# Altium footprint library PcbLib.PcbLib: 8 footprints
Each footprint in its own frame and in the unit in brackets; x right, y up, seen from the top. Pads: shape width x height; smd on the part's side, far side on the other; paste and mask are expansions set on the pad; w line width, h text height; cw(c..) or ccw(c..) is an arc to the next point about the centre after c.
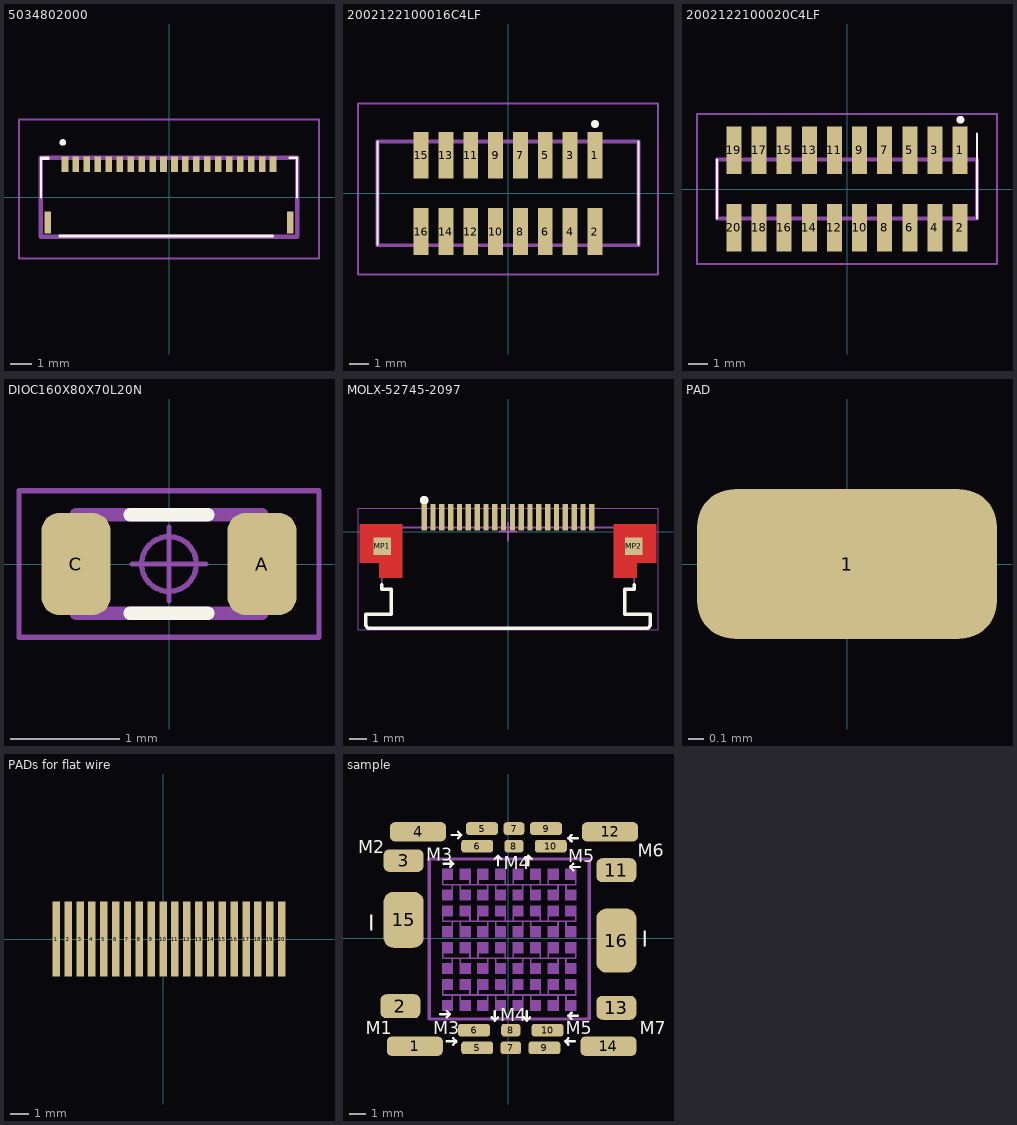
[diagram p0: the footprints below, top view; thin cyan lines are the x and y axes]

## 5034802000 [mm]
pads (22):
  rect 0.3x0.7 smd: 1(-4.75,1.5) 2(-4.25,1.5) 3(-3.75,1.5) 4(-3.25,1.5) 5(-2.75,1.5) 6(-2.25,1.5) 7(-1.75,1.5) 8(-1.25,1.5) 9(-0.75,1.5) 10(-0.25,1.5) 11(0.25,1.5) 12(0.75,1.5) 13(1.25,1.5) 14(1.75,1.5) 15(2.25,1.5) 16(2.75,1.5) 17(3.25,1.5) 18(3.75,1.5) 19(4.25,1.5) 20(4.75,1.5)
  rect 0.3x1 smd: MP1(-5.54,-1.15) MP2(5.54,-1.15)
Top Overlay:
  lines w0.1: -5.85,1.75 -5.85,0 -5.85,1.75 ; -5.85,1.75 -5.5,1.75 -5.5,1.8 -5.85,1.8 -5.85,1.75 ; 5.85,1.8 5.85,0 5.85,1.8 ; 5.85,1.8 5.5,1.8 5.85,1.8 ; -5,-1.8 4.75,-1.8 4.75,-1.75 -5,-1.75 -5,-1.8
  lines w0.2: -4.9,2.5 ccw(c-4.85,2.5) -4.8,2.5 ; -4.9,2.5 cw(c-4.85,2.5) -4.8,2.5 ; -4.9,2.5 ccw(c-4.85,2.5) -4.8,2.5
Mechanical 13:
  lines w0.2: -5.85,-1.8 5.85,-1.8 5.85,1.8 -5.85,1.8 -5.85,-1.8
Mechanical 15:
  lines w0.1: -6.85,-2.8 6.85,-2.8 6.85,3.55 -6.85,3.55 -6.85,-2.8
3D body "503480-2000.stp": height 1.97, standoff 0, extent -5.85,-1.8 5.85,1.82

## 2002122100016C4LF [mm]
pads (16):
  rect 0.76x2.4 smd: 1(4.445,1.95) 2(4.445,-1.95) 3(3.175,1.95) 4(3.175,-1.95) 5(1.905,1.95) 6(1.905,-1.95) 7(0.635,1.95) 8(0.635,-1.95) 9(-0.635,1.95) 10(-0.635,-1.95) 11(-1.905,1.95) 12(-1.905,-1.95) 13(-3.175,1.95) 14(-3.175,-1.95) 15(-4.445,1.95) 16(-4.445,-1.95)
Top Overlay:
  lines w0.1: -6.67,-2.65 -6.67,2.65 ; 6.67,-2.65 6.67,2.65
  lines w0.3: 4.445,3.5 ccw(c4.445,3.55) 4.445,3.6 ccw(c4.445,3.55) 4.445,3.5
Mechanical 13:
  lines w0.2: -6.67,-2.65 6.67,-2.65 6.67,2.65 -6.67,2.65 -6.67,-2.65
Mechanical 15:
  lines w0.1: -7.67,-4.15 7.67,-4.15 7.67,4.6 -7.67,4.6 -7.67,-4.15
3D body "20021221-00016C4LF.stp": height 5.9, standoff 0, extent -6.67,-3.074 6.67,3.074

## 2002122100020C4LF [mm]
pads (20):
  rect 0.76x2.4 smd: 1(5.715,1.95) 2(5.715,-1.95) 3(4.445,1.95) 4(4.445,-1.95) 5(3.175,1.95) 6(3.175,-1.95) 7(1.905,1.95) 8(1.905,-1.95) 9(0.635,1.95) 10(0.635,-1.95) 11(-0.635,1.95) 12(-0.635,-1.95) 13(-1.905,1.95) 14(-1.905,-1.95) 15(-3.175,1.95) 16(-3.175,-1.95) 17(-4.445,1.95) 18(-4.445,-1.95) 19(-5.715,1.95) 20(-5.715,-1.95)
Top Overlay:
  lines w0.1: -6.58,-1.5 -6.58,1.5 ; 6.58,-1.5 6.58,2.8
  lines w0.2: 5.63,3.5 ccw(c5.73,3.5) 5.83,3.5 ccw(c5.73,3.5) 5.63,3.5
Mechanical 13:
  lines w0.2: -6.58,-1.5 6.58,-1.5 6.58,1.5 -6.58,1.5 -6.58,-1.5
Mechanical 15:
  lines w0.1: -7.58,-3.8 7.58,-3.8 7.58,3.8 -7.58,3.8 -7.58,-3.8
3D body "20021221-00020C4LF.stp": height 4.85, standoff 0, extent -6.58,-3.074 6.58,3.074

## DIOC160X80X70L20N [mm] "Diode, Chip; 1.60 mm L X 0.80 mm W X 0.70 mm H body"
height 0.7
pads (2):
  rrect51% 0.63x0.93 smd: A(0.85,0) C(-0.85,0)
Top Overlay:
  lines w0.12: -0.355,-0.45 0.355,-0.45 ; -0.355,0.45 0.355,0.45
Mechanical 11:
  lines w0.12: -0.85,-0.45 0.85,-0.45 0.85,0.45 -0.85,0.45 -0.85,-0.45
Mechanical 12:
  lines w0.025: -0.8,-0.4 0.8,-0.4 ; -0.8,-0.4 -0.8,0.4 ; -0.8,-0.4 -0.8,0.4 ; -0.8,-0.4 -0.6,-0.4 -0.6,0.4 -0.8,0.4 ; -0.8,0.4 0.8,0.4 ; 0.8,-0.4 0.8,0.4 ; 0.8,-0.4 0.6,-0.4 0.6,0.4 0.8,0.4 ; 0.8,-0.4 0.8,0.4
Mechanical 15:
  circle w0.05: c0,0 r0.25
  lines w0.05: -0.335,0 0.335,0 ; 0,-0.335 0,0.335 ; -1.37,-0.67 1.37,-0.67 1.37,0.67 -1.37,0.67 -1.37,-0.67
3D body: height 0.25, standoff 0, extent 0,0 0.254,0.254
3D body "DIOC160X80X70L20.STEP": height 0.7, standoff 0, extent -0.8,-0.4 0.8,0.4

## MOLX-52745-2097 [mm] "FPC Connector, 20-Leads, Right Angle, Pitch 0.5 mm, Mated Height 2.0 mm, SMT"
height 2.012
pads (22):
  rect 0.3x1.5 smd: 1(-4.75,0.824) 2(-4.25,0.824) 3(-3.75,0.824) 4(-3.25,0.824) 5(-2.75,0.824) 6(-2.25,0.824) 7(-1.75,0.824) 8(-1.25,0.824) 9(-0.75,0.824) 10(-0.25,0.824) 11(0.25,0.824) 12(0.75,0.824) 13(1.25,0.824) 14(1.75,0.824) 15(2.25,0.824) 16(2.75,0.824) 17(3.25,0.824) 18(3.75,0.824) 19(4.25,0.824) 20(4.75,0.824)
  rect 1x1 smd: MP1(-7.134,-0.824) MP2(7.134,-0.824)
Top Layer:
  region: -8.4,0.424 -6,0.424 -6,-2.626 -7.3,-2.626 -7.3,-1.777 -7.3,-1.776 -8.4,-1.776
  region: 6,0.424 8.4,0.424 8.4,-1.776 8.4,-1.777 7.3,-1.777 7.3,-2.626 6,-2.626
Top Overlay:
  circle w0.25: c-4.75,1.774 r0.125
  lines w0.2: -7.15,-3.026 -7.15,-3.276 -6.625,-3.276 -6.625,-4.676 -8.05,-4.676 -8.05,-5.276 ccw(c-7.85,-5.276) -7.85,-5.476 7.85,-5.476 ccw(c7.85,-5.276) 8.05,-5.276 8.05,-4.676 6.625,-4.676 6.625,-3.276 7.15,-3.276 7.15,-3.026
Mechanical 13:
  lines w0.1: -8.05,-4.678 -8.05,-5.276 ccw(c-7.85,-5.276) -7.85,-5.476 7.85,-5.476 ccw(c7.85,-5.276) 8.05,-5.276 8.05,-4.676 6.625,-4.676 6.625,-3.276 7.15,-3.276 7.15,0.224 -7.15,0.224 -7.15,-3.276 -6.625,-3.276 -6.625,-4.676 -8.05,-4.676 -8.049,-4.677
Mechanical 15:
  lines w0.05: -8.5,-5.576 8.5,-5.576 8.5,1.324 -8.5,1.324 -8.5,-5.576
  lines w0.1: -0.5,0 0.5,0 ; 0,-0.5 0,0.5
3D body "527452097.stp": height 2.01, standoff 0.01, extent -8.05,-5.476 8.05,0.924

## PAD [mm]
pads (1):
  rrect50% 2x1 smd: 1(0,0)

## PADs for flat wire [mm] "FPC Connector, 20-Leads, Right Angle, Pitch 0.5 mm, Mated Height 2.0 mm, SMT"
height 2.012
pads (20):
  rect 0.4x4 smd: 1(-5.715,0) 2(-5.08,0) 3(-4.445,0) 4(-3.81,0) 5(-3.175,0) 6(-2.54,0) 7(-1.905,0) 8(-1.27,0) 9(-0.635,0) 10(0,0) 11(0.635,0) 12(1.27,0) 13(1.905,0) 14(2.54,0) 15(3.175,0) 16(3.81,0) 17(4.445,0) 18(5.08,0) 19(5.715,0) 20(6.35,0)

## sample [mm]
pads (22):
  rrect50% 3.5x1.2 smd: 1(-5.85,-6.75) 4(-5.65,6.65) 12(6.35,6.65) 14(6.25,-6.75)
  rrect50% 2.5x1.5 smd: 2(-6.75,-4.25) 11(6.75,4.25) 13(6.75,-4.35)
  rrect50% 2.5x1.4 smd: 3(-6.55,4.85)
  rrect50% 2x0.8 smd: 5(-1.95,-6.85) 5(-1.65,6.85) 6(-2.15,-5.75) 6(-1.95,5.75) 9(2.25,-6.85) 9(2.35,6.85) 10(2.45,-5.75) 10(2.65,5.75)
  rrect50% 1.3x0.8 smd: 7(0.15,-6.85) 7(0.35,6.85)
  rrect50% 1.2x0.8 smd: 8(0.15,-5.75) 8(0.35,5.75)
  rrect50% 2.5x3.5 smd: 15(-6.55,1.15)
  rrect50% 2.5x4 smd: 16(6.75,-0.15)
Top Overlay:
  lines w0.15: -4.25,-4.75 -3.65,-4.75 ; -4.05,4.65 -3.45,4.65 ; -3.85,-6.45 -3.25,-6.45 ; -3.85,-4.95 -3.65,-4.75 ; -3.85,-4.55 -3.65,-4.75 ; -3.65,4.45 -3.45,4.65 ; -3.65,4.85 -3.45,4.65 ; -3.55,6.45 -2.95,6.45 ; -3.45,-6.65 -3.25,-6.45 ; -3.45,-6.25 -3.25,-6.45 ; -3.15,6.25 -2.95,6.45 ; -3.15,6.65 -2.95,6.45 ; -1.05,-4.95 -0.85,-5.15 ; -0.85,-4.55 -0.85,-5.15 ; -0.85,4.95 -0.65,5.15 ; -0.65,-4.95 -0.85,-5.15 ; -0.65,4.55 -0.65,5.15 ; -0.45,4.95 -0.65,5.15 ; 0.95,-4.95 1.15,-5.15 ; 1.05,4.95 1.25,5.15 ; 1.15,-4.55 1.15,-5.15 ; 1.25,4.55 1.25,5.15 ; 1.35,-4.95 1.15,-5.15 ; 1.45,4.95 1.25,5.15 ; 3.75,-6.65 3.55,-6.45 ; 3.75,-6.25 3.55,-6.45 ; 3.95,-5.05 3.75,-4.85 ; 3.95,-4.65 3.75,-4.85 ; 3.95,6.05 3.75,6.25 ; 3.95,6.45 3.75,6.25 ; 4.05,4.25 3.85,4.45 ; 4.05,4.65 3.85,4.45 ; 4.15,-6.45 3.55,-6.45 ; 4.35,-4.85 3.75,-4.85 ; 4.35,6.25 3.75,6.25 ; 4.45,4.45 3.85,4.45
  text "M5" at 3.6,-6 h0.8
  text "M7" at 8.2,-6 h0.8
  text "M6" at 8.1,5.1 h0.8
  text "M4" at -0.3,4.3 h0.8
  text "M3" at -5.15,4.85 h0.8
  text "M1" at -8.9,-6 h0.8
  text "M2" at -9.4,5.3 h0.8
  text "M3" at -4.7,-6 h0.8
  text "M4" at -0.5,-5.2 h0.8
  text "M5" at 3.75,4.75 h0.8
  text "I" at -8.75,0.45 h1
  text "I" at 8.35,-0.55 h1
Mechanical 13:
  lines w0.2: -4.95,-5.05 5.05,-5.05 5.05,4.95 -4.95,4.95 -4.95,-5.05
Mechanical 15:
  rectangle: 2.45,3.65 3.15,4.35
  rectangle: 3.55,-3.25 4.25,-2.55
  rectangle: 3.55,-4.55 4.25,-3.85
  rectangle: -4.15,-3.25 -3.45,-2.55
  rectangle: -1.95,-3.25 -1.25,-2.55
  rectangle: -4.15,-4.55 -3.45,-3.85
  rectangle: -1.95,-4.55 -1.25,-3.85
  rectangle: 2.45,-3.25 3.15,-2.55
  rectangle: 2.45,-4.55 3.15,-3.85
  rectangle: 0.25,-3.25 0.95,-2.55
  rectangle: 1.35,-3.25 2.05,-2.55
  rectangle: 0.25,-4.55 0.95,-3.85
  rectangle: 1.35,-4.55 2.05,-3.85
  rectangle: -0.85,-3.25 -0.15,-2.55
  rectangle: -0.85,-4.55 -0.15,-3.85
  rectangle: -3.05,-3.25 -2.35,-2.55
  rectangle: -3.05,-4.55 -2.35,-3.85
  rectangle: 3.55,-0.95 4.25,-0.25
  rectangle: 3.55,-2.25 4.25,-1.55
  rectangle: -4.15,-0.95 -3.45,-0.25
  rectangle: -1.95,-0.95 -1.25,-0.25
  rectangle: -4.15,-2.25 -3.45,-1.55
  rectangle: -1.95,-2.25 -1.25,-1.55
  rectangle: 2.45,-0.95 3.15,-0.25
  rectangle: 2.45,-2.25 3.15,-1.55
  rectangle: 0.25,-0.95 0.95,-0.25
  rectangle: 1.35,-0.95 2.05,-0.25
  rectangle: 0.25,-2.25 0.95,-1.55
  rectangle: 1.35,-2.25 2.05,-1.55
  rectangle: -0.85,-0.95 -0.15,-0.25
  rectangle: -0.85,-2.25 -0.15,-1.55
  rectangle: -3.05,-0.95 -2.35,-0.25
  rectangle: -3.05,-2.25 -2.35,-1.55
  rectangle: 3.55,1.35 4.25,2.05
  rectangle: 3.55,0.05 4.25,0.75
  rectangle: -4.15,1.35 -3.45,2.05
  rectangle: -1.95,1.35 -1.25,2.05
  rectangle: -4.15,0.05 -3.45,0.75
  rectangle: -1.95,0.05 -1.25,0.75
  rectangle: 2.45,1.35 3.15,2.05
  rectangle: 2.45,0.05 3.15,0.75
  rectangle: 0.25,1.35 0.95,2.05
  rectangle: 1.35,1.35 2.05,2.05
  rectangle: 0.25,0.05 0.95,0.75
  rectangle: 1.35,0.05 2.05,0.75
  rectangle: -0.85,1.35 -0.15,2.05
  rectangle: -0.85,0.05 -0.15,0.75
  rectangle: -3.05,1.35 -2.35,2.05
  rectangle: -3.05,0.05 -2.35,0.75
  rectangle: 3.55,3.65 4.25,4.35
  rectangle: 3.55,2.35 4.25,3.05
  rectangle: -4.15,3.65 -3.45,4.35
  rectangle: -1.95,3.65 -1.25,4.35
  rectangle: -4.15,2.35 -3.45,3.05
  rectangle: -1.95,2.35 -1.25,3.05
  rectangle: 2.45,2.35 3.15,3.05
  rectangle: 0.25,3.65 0.95,4.35
  rectangle: 1.35,3.65 2.05,4.35
  rectangle: 0.25,2.35 0.95,3.05
  rectangle: 1.35,2.35 2.05,3.05
  rectangle: -0.85,3.65 -0.15,4.35
  rectangle: -0.85,2.35 -0.15,3.05
  rectangle: -3.05,3.65 -2.35,4.35
  rectangle: -3.05,2.35 -2.35,3.05
  lines w0.1: -4.1,-3.25 -4.1,-3.55 4.2,-3.55 4.2,-3.25 ; -4.1,-0.95 -4.1,-1.25 4.2,-1.25 4.2,-0.95 ; -4.1,1.35 -4.1,1.05 4.2,1.05 4.2,1.35 ; -4.1,3.65 -4.1,3.35 4.2,3.35 4.2,3.65 ; -3.5,-3.85 -3.5,-3.55 ; -3.5,-1.55 -3.5,-1.25 ; -3.5,0.75 -3.5,1.05 ; -3.5,3.05 -3.5,3.35 ; -3,-3.85 -3,-3.55 ; -3,-1.55 -3,-1.25 ; -3,0.75 -3,1.05 ; -3,3.05 -3,3.35 ; -2.4,-3.55 -2.4,-3.25 ; -2.4,-1.25 -2.4,-0.95 ; -2.4,1.05 -2.4,1.35 ; -2.4,3.35 -2.4,3.65 ; -1.9,-3.55 -1.9,-3.25 ; -1.9,-1.25 -1.9,-0.95 ; -1.9,1.05 -1.9,1.35 ; -1.9,3.35 -1.9,3.65 ; -1.3,-3.85 -1.3,-3.55 ; -1.3,-1.55 -1.3,-1.25 ; -1.3,0.75 -1.3,1.05 ; -1.3,3.05 -1.3,3.35 ; -0.8,-3.85 -0.8,-3.55 ; -0.8,-1.55 -0.8,-1.25 ; -0.8,0.75 -0.8,1.05 ; -0.8,3.05 -0.8,3.35 ; -0.2,-3.55 -0.2,-3.25 ; -0.2,-1.25 -0.2,-0.95 ; -0.2,1.05 -0.2,1.35 ; -0.2,3.35 -0.2,3.65 ; 0.3,-3.55 0.3,-3.25 ; 0.3,-1.25 0.3,-0.95 ; 0.3,1.05 0.3,1.35 ; 0.3,3.35 0.3,3.65 ; 0.9,-3.85 0.9,-3.55 ; 0.9,-1.55 0.9,-1.25 ; 0.9,0.75 0.9,1.05 ; 0.9,3.05 0.9,3.35 ; 1.4,-3.85 1.4,-3.55 ; 1.4,-1.55 1.4,-1.25 ; 1.4,0.75 1.4,1.05 ; 1.4,3.05 1.4,3.35 ; 2,-3.55 2,-3.25 ; 2,-1.25 2,-0.95 ; 2,1.05 2,1.35 ; 2,3.35 2,3.65 ; 2.5,-3.55 2.5,-3.25 ; 2.5,-1.25 2.5,-0.95 ; 2.5,1.05 2.5,1.35 ; 2.5,3.35 2.5,3.65 ; 3.1,-3.85 3.1,-3.55 ; 3.1,-1.55 3.1,-1.25 ; 3.1,0.75 3.1,1.05 ; 3.1,3.05 3.1,3.35 ; 3.6,-3.85 3.6,-3.55 ; 3.6,-1.55 3.6,-1.25 ; 3.6,0.75 3.6,1.05 ; 3.6,3.05 3.6,3.35
3D body: height 1, standoff 0, extent -4.95,-5.05 5.05,4.95